# Altium footprint library 691 701 530 0xx B.PcbLib: 11 footprints
Each footprint in its own frame and in the unit in brackets; x right, y up, seen from the top. Pads: shape width x height; smd on the part's side, far side on the other; paste and mask are expansions set on the pad; w line width, h text height; cw(c..) or ccw(c..) is an arc to the next point about the centre after c.
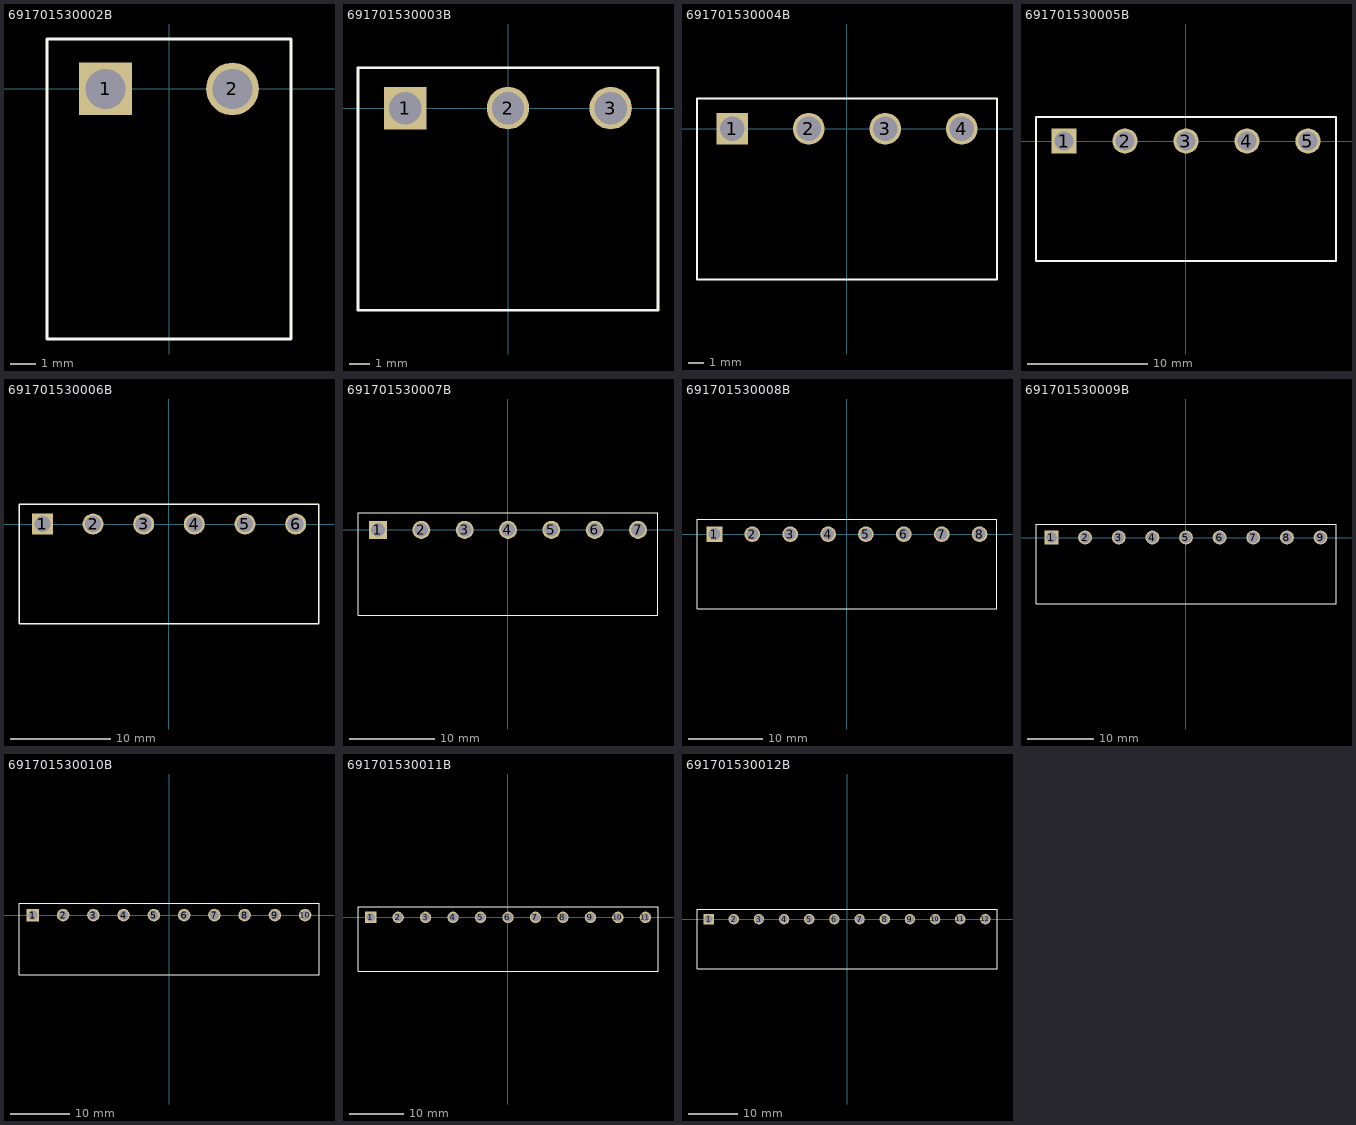
[diagram p0: the footprints below, top view; thin cyan lines are the x and y axes]

## 691701530002B [mm] "THR - 5,08mm - PCB Horizontal Open - 02p"
height 8.4
pads (2):
  rect 2.1x2.1 hole 1.6: 1(-2.54,0)
  round 2.1 hole 1.6: 2(2.54,0)
Top Overlay:
  lines w0.127: -4.54,-10 4.88,-10 4.88,2 -4.54,2 ; 4.84,-10 -4.88,-10 -4.88,2 4.84,2
3D body: height 8.6, standoff -2.7, extent -4.88,-9.9 4.88,2.1

## 691701530003B [mm] "THR - 5,08mm - PCB Horizontal Open - 03p"
height 8.4
pads (3):
  rect 2.1x2.1 hole 1.6: 1(-5.08,0)
  round 2.1 hole 1.6: 2(0,0) 3(5.08,0)
Top Overlay:
  lines w0.127: -7.08,-10 7.42,-10 7.42,2 -7.08,2 ; 7.38,-10 -7.42,-10 -7.42,2 7.38,2
3D body: height 8.6, standoff -2.7, extent -7.42,-9.9 7.42,2.1

## 691701530004B [mm] "THR - 5,08mm - PCB Horizontal Open - 04p"
height 8.4
pads (4):
  rect 2.1x2.1 hole 1.6: 1(-7.62,0)
  round 2.1 hole 1.6: 2(-2.54,0) 3(2.54,0) 4(7.62,0)
Top Overlay:
  lines w0.127: -9.62,-10 9.92,-10 ; -9.62,2 9.92,2 ; -9.96,-10 -9.96,2 9.96,2 9.96,-10 -9.96,-10
3D body: height 8.6, standoff -2.7, extent -9.96,-9.9 9.96,2.1

## 691701530005B [mm] "THR - 5,08mm - PCB Horizontal Open - 05p"
height 8.4
pads (5):
  rect 2.1x2.1 hole 1.6: 1(-10.16,0)
  round 2.1 hole 1.6: 2(-5.08,0) 3(0,0) 4(5.08,0) 5(10.16,0)
Top Overlay:
  lines w0.127: -12.16,-10 12.46,-10 ; -12.16,2 12.46,2 ; -12.5,-10 12.5,-10 12.5,2 -12.5,2 -12.5,-10
3D body: height 8.6, standoff -2.7, extent -12.5,-9.9 12.5,2.1

## 691701530006B [mm] "THR - 5,08mm - PCB Horizontal Open - 06p"
height 8.4
pads (6):
  rect 2.1x2.1 hole 1.6: 1(-12.7,0)
  round 2.1 hole 1.6: 2(-7.62,0) 3(-2.54,0) 4(2.54,0) 5(7.62,0) 6(12.7,0)
Top Overlay:
  lines w0.127: -14.7,-10 15.04,-10 15.04,2 -14.7,2 ; 15,-10 -15.04,-10 -15.04,2 15,2
3D body: height 8.6, standoff -2.7, extent -15.04,-9.9 15.04,2.1

## 691701530007B [mm] "THR - 5,08mm - PCB Horizontal Open - 07p"
height 8.4
pads (7):
  rect 2.1x2.1 hole 1.6: 1(-15.24,0)
  round 2.1 hole 1.6: 2(-10.16,0) 3(-5.08,0) 4(0,0) 5(5.08,0) 6(10.16,0) 7(15.24,0)
Top Overlay:
  lines w0.127: -17.24,-10 17.54,-10 ; -17.24,2 17.54,2 ; -17.58,-10 -17.58,2 17.58,2 17.58,-10 -17.58,-10
3D body: height 8.6, standoff -2.7, extent -17.58,-9.8 17.58,2.2

## 691701530008B [mm] "THR - 5,08mm - PCB Horizontal Open - 08p"
height 8.4
pads (8):
  rect 2.1x2.1 hole 1.6: 1(-17.78,0)
  round 2.1 hole 1.6: 2(-12.7,0) 3(-7.62,0) 4(-2.54,0) 5(2.54,0) 6(7.62,0) 7(12.7,0) 8(17.78,0)
Top Overlay:
  lines w0.127: -19.78,-10 20.08,-10 ; -19.78,2 20.08,2 ; -20.12,-10 20.12,-10 20.12,2 -20.12,2 -20.12,-10
3D body: height 8.6, standoff -2.7, extent -20.12,-9.9 20.12,2.1

## 691701530009B [mm] "THR - 5,08mm - PCB Horizontal Open - 09p"
height 8.4
pads (9):
  rect 2.1x2.1 hole 1.6: 1(-20.32,0)
  round 2.1 hole 1.6: 2(-15.24,0) 3(-10.16,0) 4(-5.08,0) 5(0,0) 6(5.08,0) 7(10.16,0) 8(15.24,0) 9(20.32,0)
Top Overlay:
  lines w0.127: -22.32,-10 22.66,-10 22.66,2 -22.32,2 ; 22.62,-10 -22.66,-10 -22.66,2 22.62,2
3D body: height 8.6, standoff -2.7, extent -22.66,-9.8 22.66,2.2

## 691701530010B [mm] "THR - 5,08mm - PCB Horizontal Open - 10p"
height 8.4
pads (10):
  rect 2.1x2.1 hole 1.6: 1(-22.86,0)
  round 2.1 hole 1.6: 2(-17.78,0) 3(-12.7,0) 4(-7.62,0) 5(-2.54,0) 6(2.54,0) 7(7.62,0) 8(12.7,0) 9(17.78,0) 10(22.86,0)
Top Overlay:
  lines w0.127: -24.86,-10 25.16,-10 ; -24.86,2 25.16,2 ; -25.2,-10 25.2,-10 25.2,2 -25.2,2 -25.2,-10
3D body: height 8.6, standoff -2.7, extent -25.2,-9.9 25.2,2.1

## 691701530011B [mm] "THR - 5,08mm - PCB Horizontal Open - 11p"
height 8.4
pads (11):
  rect 2.1x2.1 hole 1.6: 1(-25.4,0)
  round 2.1 hole 1.6: 2(-20.32,0) 3(-15.24,0) 4(-10.16,0) 5(-5.08,0) 6(0,0) 7(5.08,0) 8(10.16,0) 9(15.24,0) 10(20.32,0) 11(25.4,0)
Top Overlay:
  lines w0.127: -27.4,-10 27.7,-10 ; -27.4,2 27.7,2 ; -27.74,-10 -27.74,2 27.74,2 27.74,-10 -27.74,-10
3D body: height 8.6, standoff -2.7, extent -27.64,-9.9 27.84,2.1

## 691701530012B [mm] "THR - 5,08mm - PCB Horizontal Open - 12p"
height 8.4
pads (12):
  rect 2.1x2.1 hole 1.6: 1(-27.94,0)
  round 2.1 hole 1.6: 2(-22.86,0) 3(-17.78,0) 4(-12.7,0) 5(-7.62,0) 6(-2.54,0) 7(2.54,0) 8(7.62,0) 9(12.7,0) 10(17.78,0) 11(22.86,0) 12(27.94,0)
Top Overlay:
  lines w0.127: -29.94,-10 30.28,-10 30.28,2 -29.94,2 ; 30.24,-10 -30.28,-10 -30.28,2 30.24,2
3D body: height 8.6, standoff -2.7, extent -30.36,-9.9 30.2,2.1